# Altium footprint library CAPS.PcbLib: 166 footprints (part 9 of 11)
Each footprint in its own frame and in the unit in brackets; x right, y up, seen from the top. Pads: shape width x height; smd on the part's side, far side on the other; paste and mask are expansions set on the pad; w line width, h text height; cw(c..) or ccw(c..) is an arc to the next point about the centre after c.
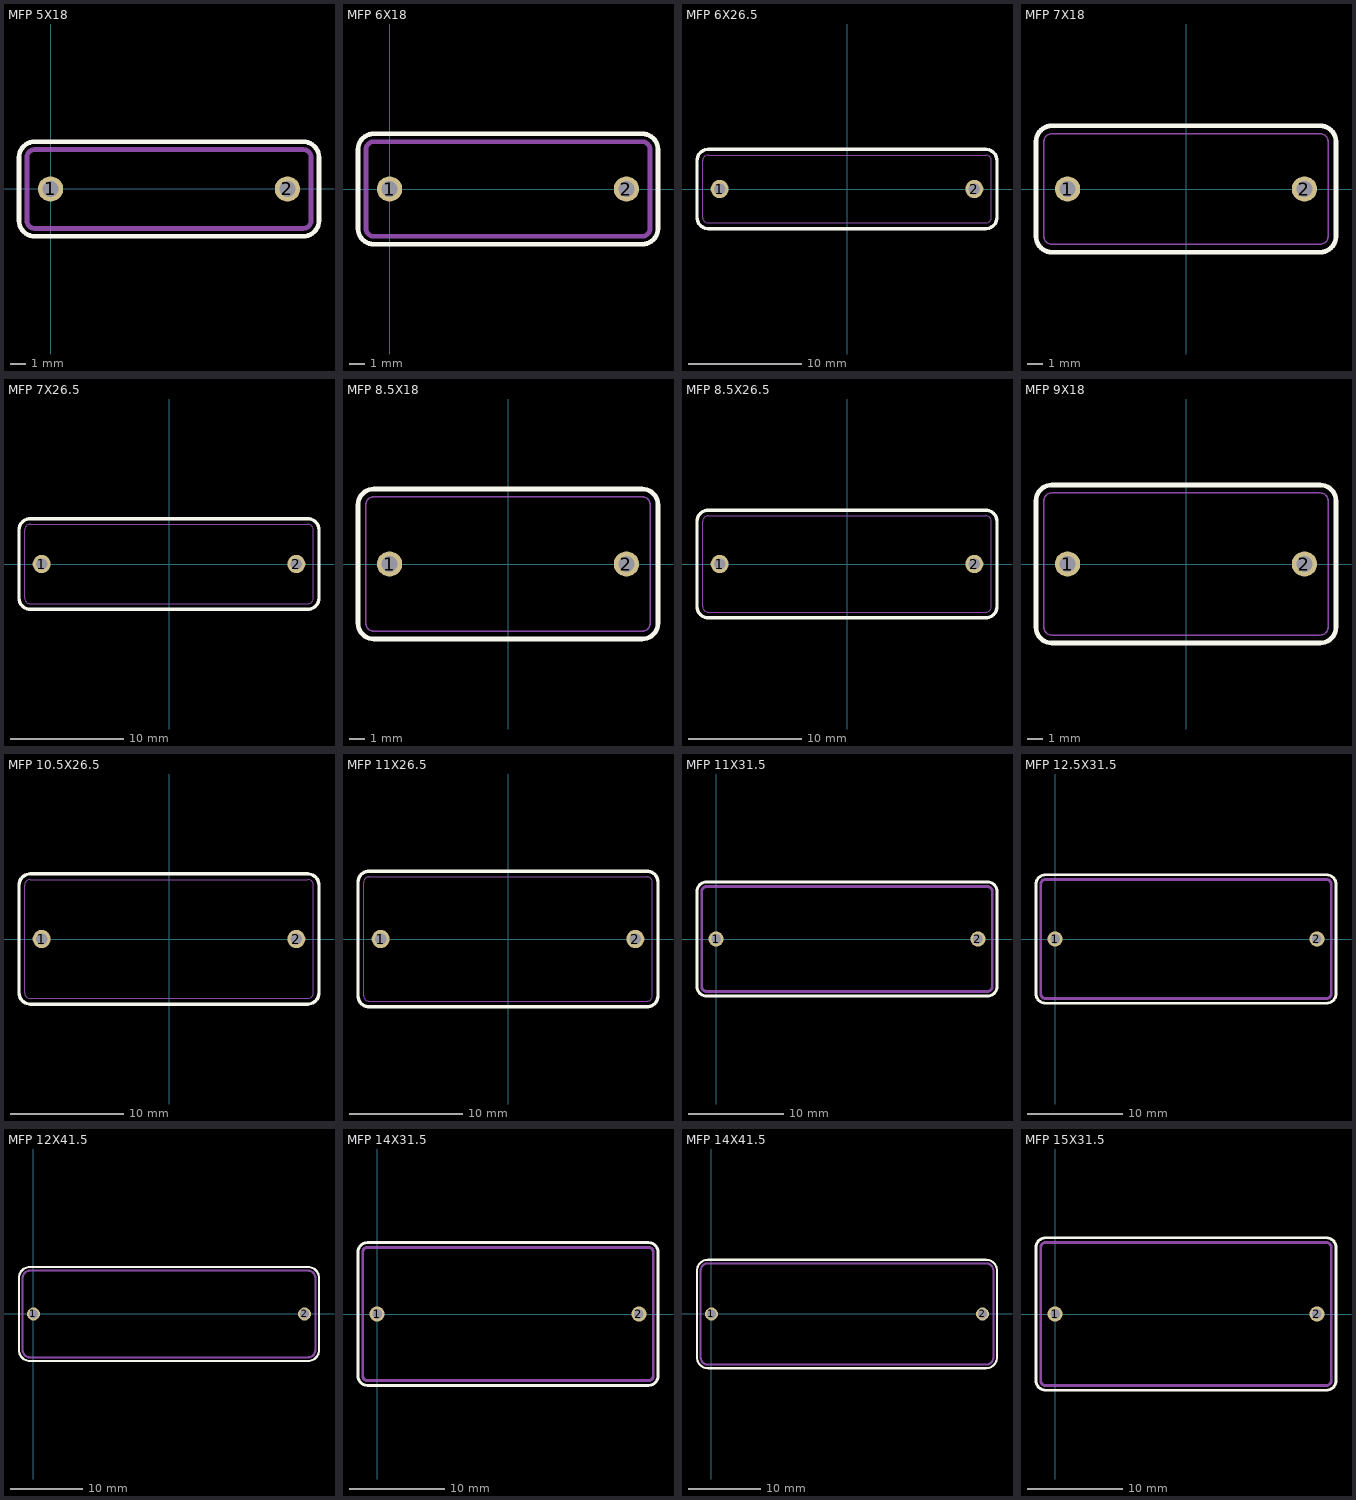
[diagram p8: the footprints below, top view; thin cyan lines are the x and y axes]

## MFP 5X18 [mm]
height 10.5
pads (2):
  round 1.6 hole 1: 1(0,0) 2(15,0)
Top Overlay:
  lines w0.3: -2,-2 ccw(c-1,-2) -1,-3 16,-3 ccw(c16,-2) 17,-2 17,2 ccw(c16,2) 16,3 -1,3 ccw(c-1,2) -2,2 -2,-2
Mechanical 1:
  lines w0.3: -1.5,-2 ccw(c-1,-2) -1,-2.5 16,-2.5 ccw(c16,-2) 16.5,-2 16.5,2 ccw(c16,2) 16,2.5 -1,2.5 ccw(c-1,2) -1.5,2 -1.5,-2

## MFP 6X18 [mm]
pads (2):
  round 1.6 hole 1: 1(0,0) 2(15,0)
Top Overlay:
  lines w0.3: -2,-2.5 ccw(c-1,-2.5) -1,-3.5 16,-3.5 ccw(c16,-2.5) 17,-2.5 17,2.5 ccw(c16,2.5) 16,3.5 -1,3.5 ccw(c-1,2.5) -2,2.5 -2,-2.5
Mechanical 1:
  lines w0.3: -1.5,-2.5 ccw(c-1,-2.5) -1,-3 16,-3 ccw(c16,-2.5) 16.5,-2.5 16.5,2.5 ccw(c16,2.5) 16,3 -1,3 ccw(c-1,2.5) -1.5,2.5 -1.5,-2.5

## MFP 6X26.5 [mm]
pads (2):
  round 1.6 hole 1: 1(-11.25,0) 2(11.25,0)
Top Overlay:
  lines w0.3: -13.25,-2.5 ccw(c-12.25,-2.5) -12.25,-3.5 12.25,-3.5 ccw(c12.25,-2.5) 13.25,-2.5 13.25,2.5 ccw(c12.25,2.5) 12.25,3.5 -12.25,3.5 ccw(c-12.25,2.5) -13.25,2.5 -13.25,-2.5
Mechanical 1:
  lines w0.1: -12.75,-2.5 ccw(c-12.25,-2.5) -12.25,-3 12.25,-3 ccw(c12.25,-2.5) 12.75,-2.5 12.75,2.5 ccw(c12.25,2.5) 12.25,3 -12.25,3 ccw(c-12.25,2.5) -12.75,2.5 -12.75,-2.5
3D body: height 21, standoff 0.1, extent -12.75,-3 12.75,3

## MFP 7X18 [mm]
height 12.5
pads (2):
  round 1.6 hole 1: 1(-7.5,0) 2(7.5,0)
Top Overlay:
  lines w0.3: -9.5,-3 ccw(c-8.5,-3) -8.5,-4 8.5,-4 ccw(c8.5,-3) 9.5,-3 9.5,3 ccw(c8.5,3) 8.5,4 -8.5,4 ccw(c-8.5,3) -9.5,3 -9.5,-3
Mechanical 1:
  lines w0.1: -9,-3 ccw(c-8.5,-3) -8.5,-3.5 8.5,-3.5 ccw(c8.5,-3) 9,-3 9,3 ccw(c8.5,3) 8.5,3.5 -8.5,3.5 ccw(c-8.5,3) -9,3 -9,-3
3D body: height 12.5, standoff 0.1, extent -9,-3.5 9,3.5

## MFP 7X26.5 [mm]
pads (2):
  round 1.6 hole 1: 1(-11.25,0) 2(11.25,0)
Top Overlay:
  lines w0.3: -13.25,-3 ccw(c-12.25,-3) -12.25,-4 12.25,-4 ccw(c12.25,-3) 13.25,-3 13.25,3 ccw(c12.25,3) 12.25,4 -12.25,4 ccw(c-12.25,3) -13.25,3 -13.25,-3
Mechanical 1:
  lines w0.1: -12.75,-3 ccw(c-12.25,-3) -12.25,-3.5 12.25,-3.5 ccw(c12.25,-3) 12.75,-3 12.75,3 ccw(c12.25,3) 12.25,3.5 -12.25,3.5 ccw(c-12.25,3) -12.75,3 -12.75,-3
3D body: height 21, standoff 0.1, extent -12.75,-3.5 12.75,3.5

## MFP 8.5X18 [mm]
height 14.5
pads (2):
  round 1.6 hole 1: 1(-7.5,0) 2(7.5,0)
Top Overlay:
  lines w0.3: -9.5,-3.75 ccw(c-8.5,-3.75) -8.5,-4.75 8.5,-4.75 ccw(c8.5,-3.75) 9.5,-3.75 9.5,3.75 ccw(c8.5,3.75) 8.5,4.75 -8.5,4.75 ccw(c-8.5,3.75) -9.5,3.75 -9.5,-3.75
Mechanical 1:
  lines w0.1: -9,-3.75 ccw(c-8.5,-3.75) -8.5,-4.25 8.5,-4.25 ccw(c8.5,-3.75) 9,-3.75 9,3.75 ccw(c8.5,3.75) 8.5,4.25 -8.5,4.25 ccw(c-8.5,3.75) -9,3.75 -9,-3.75
3D body: height 14.5, standoff 0.1, extent -9,-4.25 9,4.25

## MFP 8.5X26.5 [mm]
pads (2):
  round 1.6 hole 1: 1(-11.25,0) 2(11.25,0)
Top Overlay:
  lines w0.3: -13.25,-3.75 ccw(c-12.25,-3.75) -12.25,-4.75 12.25,-4.75 ccw(c12.25,-3.75) 13.25,-3.75 13.25,3.75 ccw(c12.25,3.75) 12.25,4.75 -12.25,4.75 ccw(c-12.25,3.75) -13.25,3.75 -13.25,-3.75
Mechanical 1:
  lines w0.1: -12.75,-3.75 ccw(c-12.25,-3.75) -12.25,-4.25 12.25,-4.25 ccw(c12.25,-3.75) 12.75,-3.75 12.75,3.75 ccw(c12.25,3.75) 12.25,4.25 -12.25,4.25 ccw(c-12.25,3.75) -12.75,3.75 -12.75,-3.75
3D body: height 21, standoff 0.1, extent -12.75,-4.25 12.75,4.25

## MFP 9X18 [mm]
height 17.5
pads (2):
  round 1.6 hole 1: 1(-7.5,0) 2(7.5,0)
Top Overlay:
  lines w0.3: -9.5,-4 ccw(c-8.5,-4) -8.5,-5 8.5,-5 ccw(c8.5,-4) 9.5,-4 9.5,4 ccw(c8.5,4) 8.5,5 -8.5,5 ccw(c-8.5,4) -9.5,4 -9.5,-4
Mechanical 1:
  lines w0.1: -9,-4 ccw(c-8.5,-4) -8.5,-4.5 8.5,-4.5 ccw(c8.5,-4) 9,-4 9,4 ccw(c8.5,4) 8.5,4.5 -8.5,4.5 ccw(c-8.5,4) -9,4 -9,-4
3D body: height 17.5, standoff -0.1, extent -9,-4.5 9,4.5

## MFP 10.5X26.5 [mm]
height 21
pads (2):
  round 1.6 hole 1: 1(-11.25,0) 2(11.25,0)
Top Overlay:
  lines w0.3: -13.25,-4.75 ccw(c-12.25,-4.75) -12.25,-5.75 12.25,-5.75 ccw(c12.25,-4.75) 13.25,-4.75 13.25,4.75 ccw(c12.25,4.75) 12.25,5.75 -12.25,5.75 ccw(c-12.25,4.75) -13.25,4.75 -13.25,-4.75
Mechanical 1:
  lines w0.1: -12.75,-4.75 ccw(c-12.25,-4.75) -12.25,-5.25 12.25,-5.25 ccw(c12.25,-4.75) 12.75,-4.75 12.75,4.75 ccw(c12.25,4.75) 12.25,5.25 -12.25,5.25 ccw(c-12.25,4.75) -12.75,4.75 -12.75,-4.75
3D body: height 21, standoff 0.1, extent -12.75,-5.25 12.75,5.25

## MFP 11X26.5 [mm]
height 21
pads (2):
  round 1.6 hole 1: 1(-11.25,0) 2(11.25,0)
Top Overlay:
  lines w0.3: -13.25,-5 ccw(c-12.25,-5) -12.25,-6 12.25,-6 ccw(c12.25,-5) 13.25,-5 13.25,5 ccw(c12.25,5) 12.25,6 -12.25,6 ccw(c-12.25,5) -13.25,5 -13.25,-5
Mechanical 1:
  lines w0.1: -12.75,-5 ccw(c-12.25,-5) -12.25,-5.5 12.25,-5.5 ccw(c12.25,-5) 12.75,-5 12.75,5 ccw(c12.25,5) 12.25,5.5 -12.25,5.5 ccw(c-12.25,5) -12.75,5 -12.75,-5
3D body: height 21, standoff 0.1, extent -12.75,-5.5 12.75,5.5

## MFP 11X31.5 [mm]
pads (2):
  round 1.6 hole 1: 1(0,0) 2(27.5,0)
Top Overlay:
  lines w0.3: -2,-5 ccw(c-1,-5) -1,-6 28.5,-6 ccw(c28.5,-5) 29.5,-5 29.5,5 ccw(c28.5,5) 28.5,6 -1,6 ccw(c-1,5) -2,5 -2,-5
Mechanical 1:
  lines w0.3: -1.5,-5 ccw(c-1,-5) -1,-5.5 28.5,-5.5 ccw(c28.5,-5) 29,-5 29,5 ccw(c28.5,5) 28.5,5.5 -1,5.5 ccw(c-1,5) -1.5,5 -1.5,-5

## MFP 12.5X31.5 [mm]
pads (2):
  round 1.6 hole 1: 1(0,0) 2(27.5,0)
Top Overlay:
  lines w0.3: -2,-5.75 ccw(c-1,-5.75) -1,-6.75 28.5,-6.75 ccw(c28.5,-5.75) 29.5,-5.75 29.5,5.75 ccw(c28.5,5.75) 28.5,6.75 -1,6.75 ccw(c-1,5.75) -2,5.75 -2,-5.75
Mechanical 1:
  lines w0.3: -1.5,-5.75 ccw(c-1,-5.75) -1,-6.25 28.5,-6.25 ccw(c28.5,-5.75) 29,-5.75 29,5.75 ccw(c28.5,5.75) 28.5,6.25 -1,6.25 ccw(c-1,5.75) -1.5,5.75 -1.5,-5.75

## MFP 12X41.5 [mm]
pads (2):
  round 1.8 hole 1.2: 1(0,0) 2(37.5,0)
Top Overlay:
  lines w0.3: -2,-5 ccw(c-0.5,-5) -0.5,-6.5 38,-6.5 ccw(c38,-5) 39.5,-5 39.5,5 ccw(c38,5) 38,6.5 -0.5,6.5 ccw(c-0.5,5) -2,5 -2,-5
Mechanical 1:
  lines w0.3: -1.5,-5 ccw(c-0.5,-5) -0.5,-6 38,-6 ccw(c38,-5) 39,-5 39,5 ccw(c38,5) 38,6 -0.5,6 ccw(c-0.5,5) -1.5,5 -1.5,-5

## MFP 14X31.5 [mm]
pads (2):
  round 1.6 hole 1: 1(0,0) 2(27.5,0)
Top Overlay:
  lines w0.3: -2,-6.5 ccw(c-1,-6.5) -1,-7.5 28.5,-7.5 ccw(c28.5,-6.5) 29.5,-6.5 29.5,6.5 ccw(c28.5,6.5) 28.5,7.5 -1,7.5 ccw(c-1,6.5) -2,6.5 -2,-6.5
Mechanical 1:
  lines w0.3: -1.5,-6.5 ccw(c-1,-6.5) -1,-7 28.5,-7 ccw(c28.5,-6.5) 29,-6.5 29,6.5 ccw(c28.5,6.5) 28.5,7 -1,7 ccw(c-1,6.5) -1.5,6.5 -1.5,-6.5

## MFP 14X41.5 [mm]
pads (2):
  round 1.8 hole 1.2: 1(0,0) 2(37.5,0)
Top Overlay:
  lines w0.3: -2,-6 ccw(c-0.5,-6) -0.5,-7.5 38,-7.5 ccw(c38,-6) 39.5,-6 39.5,6 ccw(c38,6) 38,7.5 -0.5,7.5 ccw(c-0.5,6) -2,6 -2,-6
Mechanical 1:
  lines w0.3: -1.5,-6 ccw(c-0.5,-6) -0.5,-7 38,-7 ccw(c38,-6) 39,-6 39,6 ccw(c38,6) 38,7 -0.5,7 ccw(c-0.5,6) -1.5,6 -1.5,-6

## MFP 15X31.5 [mm]
pads (2):
  round 1.6 hole 1: 1(0,0) 2(27.5,0)
Top Overlay:
  lines w0.3: -2,-7 ccw(c-1,-7) -1,-8 28.5,-8 ccw(c28.5,-7) 29.5,-7 29.5,7 ccw(c28.5,7) 28.5,8 -1,8 ccw(c-1,7) -2,7 -2,-7
Mechanical 1:
  lines w0.3: -1.5,-7 ccw(c-1,-7) -1,-7.5 28.5,-7.5 ccw(c28.5,-7) 29,-7 29,7 ccw(c28.5,7) 28.5,7.5 -1,7.5 ccw(c-1,7) -1.5,7 -1.5,-7